# Altium footprint library WR-MPC4.PcbLib: 79 footprints (part 2 of 5)
Each footprint in its own frame and in the unit in brackets; x right, y up, seen from the top. Pads: shape width x height; smd on the part's side, far side on the other; paste and mask are expansions set on the pad; w line width, h text height; cw(c..) or ccw(c..) is an arc to the next point about the centre after c.
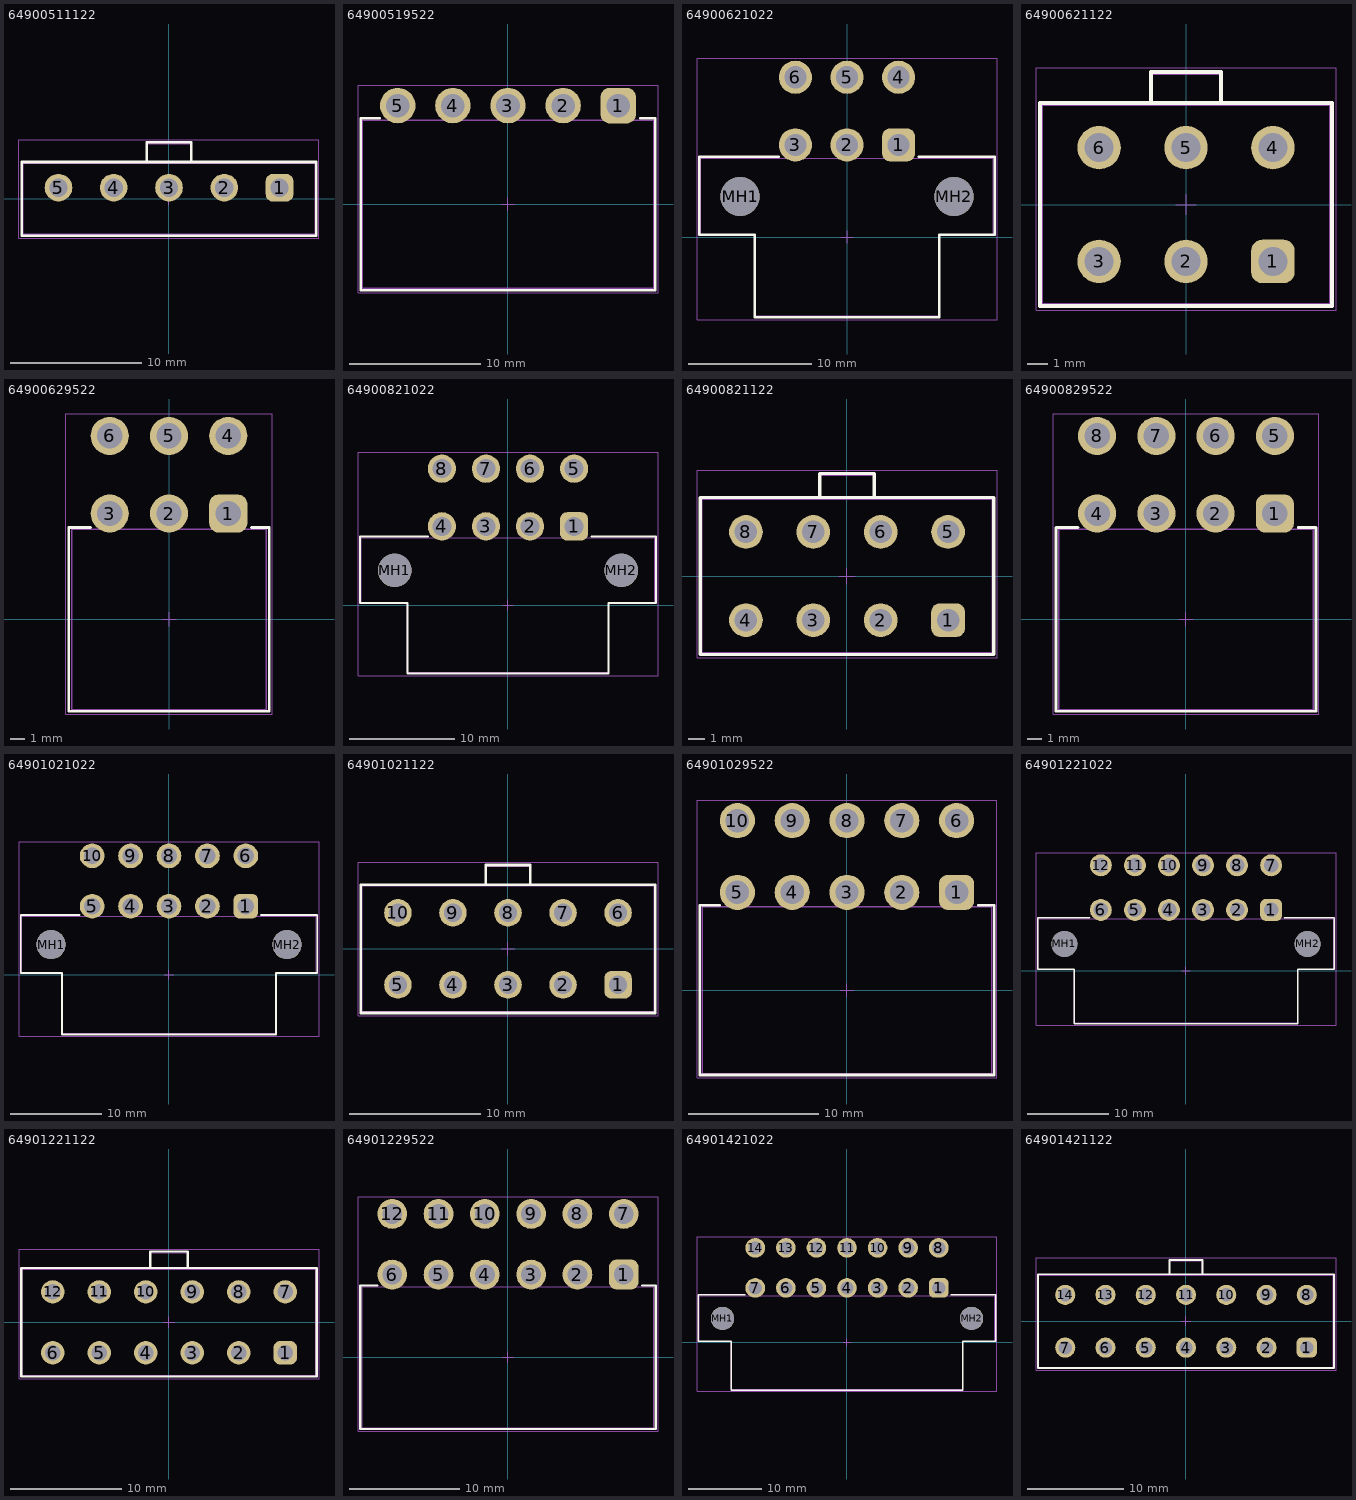
[diagram p1: the footprints below, top view; thin cyan lines are the x and y axes]

## 64900511122 [mm] "4.20mm Male Single Row Vertical Header, 5p"
height 12.8
pads (5):
  rrect50% 2.1x2.1 hole 1.4: 1(8.4,0.85)
  round 2.1 hole 1.4: 2(4.2,0.85) 3(0,0.85) 4(-4.2,0.85) 5(-8.4,0.85)
Top Overlay:
  lines w0.2: -1.7,2.8 -1.7,4.3 1.7,4.3 1.7,2.8 ; -11.2,-2.8 -11.2,2.8 11.2,2.8 11.2,-2.8 -11.2,-2.8
Top Designator:
  text ".Designator" at -7.498,-0.5 h1.5
Top Component Outline:
  lines w0.1: -1.7,2.7 -1.7,4.2 1.7,4.2 1.7,2.7 ; -11.1,-2.7 11.1,-2.7 11.1,2.7 -11.1,2.7 -11.1,-2.7
Top Courtyard:
  lines w0.05: -0.5,0 0.5,0 ; 0,-0.5 0,0.5 ; -11.4,-3 -11.4,4.5 11.4,4.5 11.4,-3 -11.4,-3
3D body "64900511122.stp": height 12.83, standoff -3.47, extent -11.1,-2.7 11.1,4.2

## 64900519522 [mm] "4.20mm Male Single Row Angled Header, 5p"
height 5.8
pads (5):
  rrect50% 2.7x2.7 hole 1.8: 1(8.4,7.5)
  round 2.7 hole 1.8: 2(4.2,7.5) 3(0,7.5) 4(-4.2,7.5) 5(-8.4,7.5)
Top Overlay:
  lines w0.2: -9.775,6.55 -11.225,6.55 -11.225,-6.55 11.225,-6.55 11.225,6.55 10.075,6.55
Top Designator:
  text ".Designator" at -7.498,-0.5 h1.5
Top Component Outline:
  lines w0.1: -11.1,-6.4 -11.1,6.4 11.1,6.4 11.1,-6.4 -11.1,-6.4
Top Courtyard:
  lines w0.05: -0.5,0 0.5,0 ; 0,-0.5 0,0.5 ; -11.425,-6.75 11.425,-6.75 11.425,9.05 -11.425,9.05 -11.425,-6.75
3D body "64900519522.stp": height 7.23, standoff -3.47, extent -11.1,-6.4 11.1,8.07

## 64900621022 [mm] "4.20mm Male Dual Row Angled Header with Mounting Flanges for Screw-in Retention, 6p"
height 10
pads (8):
  rrect50% 2.7x2.7 hole 1.8: 1(4.2,7.5)
  round 2.7 hole 1.8: 2(0,7.5) 3(-4.2,7.5) 4(4.2,13) 5(0,13) 6(-4.2,13)
  round 3.2 hole 3.2 unplated: MH1(-8.7,3.3) MH2(8.7,3.3)
Top Overlay:
  lines w0.2: -5.55,6.525 -12,6.525 -12,0.2 -7.5,0.2 -7.5,-6.525 7.5,-6.525 7.5,0.2 12,0.2 12,6.525 5.85,6.525
Top Designator:
  text ".Designator" at -7.498,-0.5 h1.5
Top Component Outline:
  lines w0.1: -11.9,0.2 -7.5,0.2 -7.5,-6.4 7.5,-6.4 7.5,0.2 11.9,0.2 11.9,6.4 -11.9,6.4 -11.9,0.2
Top Courtyard:
  lines w0.05: -0.5,0 0.5,0 ; 0,-0.5 0,0.5 ; -12.2,-6.725 12.2,-6.725 12.2,14.55 -12.2,14.55 -12.2,-6.725
3D body "64900621022.stp": height 11.43, standoff -3.47, extent -11.9,-6.4 11.9,13.57

## 64900621122 [mm] "4.20mm Male Dual Row Vertical Header, 6p"
height 12.8
pads (6):
  rrect50% 2.1x2.1 hole 1.4: 1(4.2,-2.75)
  round 2.1 hole 1.4: 2(0,-2.75) 3(-4.2,-2.75) 4(4.2,2.75) 5(0,2.75) 6(-4.2,2.75)
Top Overlay:
  lines w0.2: -1.7,4.9 -1.7,6.4 1.7,6.4 1.7,4.9 ; -7.05,-4.9 -7.05,4.9 7.05,4.9 7.05,-4.9 -7.05,-4.9
Top Designator:
  text ".Designator" at -7.498,-0.5 h1.5
Top Component Outline:
  lines w0.1: -1.7,4.8 -1.7,6.3 1.7,6.3 1.7,4.8 ; -6.95,-4.8 6.95,-4.8 6.95,4.8 -6.95,4.8 -6.95,-4.8
Top Courtyard:
  lines w0.05: -0.5,0 0.5,0 ; 0,-0.5 0,0.5 ; -7.25,-5.1 7.25,-5.1 7.25,6.6 -7.25,6.6 -7.25,-5.1
3D body "64900621122.stp": height 12.85, standoff -3.45, extent -6.95,-4.8 7.246,6.3

## 64900629522 [mm] "4.20mm Male Dual Row Angled Header, 6p"
height 10
pads (6):
  rrect50% 2.7x2.7 hole 1.8: 1(4.2,7.5)
  round 2.7 hole 1.8: 2(0,7.5) 3(-4.2,7.5) 4(4.2,13) 5(0,13) 6(-4.2,13)
Top Overlay:
  lines w0.2: -5.55,6.5 -7.1,6.5 -7.1,-6.5 7.1,-6.5 7.1,6.5 5.85,6.5
Top Designator:
  text ".Designator" at -7.498,-0.5 h1.5
Top Component Outline:
  lines w0.1: -6.9,-6.4 6.9,-6.4 6.9,6.4 -6.9,6.4 -6.9,-6.4
Top Courtyard:
  lines w0.05: -0.5,0 0.5,0 ; 0,-0.5 0,0.5 ; -7.3,-6.7 -7.3,14.55 7.3,14.55 7.3,-6.7 -7.3,-6.7
3D body "64900629522.stp": height 11.43, standoff -3.47, extent -6.9,-6.4 7.22,13.57

## 64900821022 [mm] "4.20mm Male Dual Row Angled Header with Mounting Flanges for Screw-in Retention, 8p"
height 10
pads (10):
  rrect50% 2.7x2.7 hole 1.8: 1(6.3,7.5)
  round 2.7 hole 1.8: 2(2.1,7.5) 3(-2.1,7.5) 4(-6.3,7.5) 5(6.3,13) 6(2.1,13) 7(-2.1,13) 8(-6.3,13)
  round 3.2 hole 3.2 unplated: MH1(-10.8,3.3) MH2(10.8,3.3)
Top Overlay:
  lines w0.2: -7.65,6.525 -14.1,6.525 -14.1,0.2 -9.6,0.2 -9.6,-6.525 9.6,-6.525 9.6,0.2 14.1,0.2 14.1,6.525 7.95,6.525
Top Designator:
  text ".Designator" at -7.498,-0.5 h1.5
Top Component Outline:
  lines w0.1: -14,0.2 -9.6,0.2 -9.6,-6.4 9.6,-6.4 9.6,0.2 14,0.2 14,6.4 -14,6.4 -14,0.2
Top Courtyard:
  lines w0.05: -0.5,0 0.5,0 ; 0,-0.5 0,0.5 ; -14.3,-6.725 14.3,-6.725 14.3,14.55 -14.3,14.55 -14.3,-6.725
3D body "64900821022.stp": height 11.43, standoff -3.47, extent -14,-6.4 14,13.57

## 64900821122 [mm] "4.20mm Male Dual Row Vertical Header, 8p"
height 12.8
pads (8):
  rrect50% 2.1x2.1 hole 1.4: 1(6.3,-2.75)
  round 2.1 hole 1.4: 2(2.1,-2.75) 3(-2.1,-2.75) 4(-6.3,-2.75) 5(6.3,2.75) 6(2.1,2.75) 7(-2.1,2.75) 8(-6.3,2.75)
Top Overlay:
  lines w0.2: -1.7,4.9 -1.7,6.4 1.7,6.4 1.7,4.9 ; -9.15,-4.9 9.15,-4.9 9.15,4.9 -9.15,4.9 -9.15,-4.9
Top Designator:
  text ".Designator" at -7.498,-0.5 h1.5
Top Component Outline:
  lines w0.1: -1.7,4.8 -1.7,6.3 1.7,6.3 1.7,4.8 ; -9.05,-4.8 -9.05,4.8 9.05,4.8 9.05,-4.8 -9.05,-4.8
Top Courtyard:
  lines w0.05: -0.5,0 0.5,0 ; 0,-0.5 0,0.5 ; -9.35,-5.1 -9.35,6.6 9.35,6.6 9.35,-5.1 -9.35,-5.1
3D body "64900821122.stp": height 12.85, standoff -3.45, extent -9.05,-4.8 9.346,6.3

## 64900829522 [mm] "4.20mm Male Dual Row Angled Header, 8p"
height 10
pads (8):
  rrect50% 2.7x2.7 hole 1.8: 1(6.3,7.5)
  round 2.7 hole 1.8: 2(2.1,7.5) 3(-2.1,7.5) 4(-6.3,7.5) 5(6.3,13) 6(2.1,13) 7(-2.1,13) 8(-6.3,13)
Top Overlay:
  lines w0.2: -7.65,6.5 -9.2,6.5 -9.2,-6.5 9.2,-6.5 9.2,6.5 7.95,6.5
Top Designator:
  text ".Designator" at -7.498,-0.5 h1.5
Top Component Outline:
  lines w0.1: -9,-6.4 -9,6.4 9,6.4 9,-6.4 -9,-6.4
Top Courtyard:
  lines w0.05: -0.5,0 0.5,0 ; 0,-0.5 0,0.5 ; -9.4,-6.7 9.4,-6.7 9.4,14.55 -9.4,14.55 -9.4,-6.7
3D body "64900829522.stp": height 11.43, standoff -3.47, extent -9,-6.4 9.32,13.57

## 64901021022 [mm] "4.20mm Male Dual Row Angled Header with Mounting Flanges for Screw-in Retention, 10p"
height 10
pads (12):
  rrect50% 2.7x2.7 hole 1.8: 1(8.4,7.5)
  round 2.7 hole 1.8: 2(4.2,7.5) 3(0,7.5) 4(-4.2,7.5) 5(-8.4,7.5) 6(8.4,13) 7(4.2,13) 8(0,13) 9(-4.2,13) 10(-8.4,13)
  round 3.2 hole 3.2 unplated: MH1(-12.9,3.3) MH2(12.9,3.3)
Top Overlay:
  lines w0.2: -9.75,6.525 -16.2,6.525 -16.2,0.2 -11.7,0.2 -11.7,-6.525 11.7,-6.525 11.7,0.2 16.2,0.2 16.2,6.525 10.05,6.525
Top Designator:
  text ".Designator" at -7.498,-0.5 h1.5
Top Component Outline:
  lines w0.1: -16.1,0.2 -11.7,0.2 -11.7,-6.4 11.7,-6.4 11.7,0.2 16.1,0.2 16.1,6.4 -16.1,6.4 -16.1,0.2
Top Courtyard:
  lines w0.05: -0.5,0 0.5,0 ; 0,-0.5 0,0.5 ; -16.4,-6.725 16.4,-6.725 16.4,14.55 -16.4,14.55 -16.4,-6.725
3D body "64901021022.stp": height 11.43, standoff -3.47, extent -16.1,-6.4 16.1,13.57

## 64901021122 [mm] "4.20mm Male Dual Row Vertical Header, 10p"
height 12.8
pads (10):
  rrect50% 2.1x2.1 hole 1.4: 1(8.4,-2.75)
  round 2.1 hole 1.4: 2(4.2,-2.75) 3(0,-2.75) 4(-4.2,-2.75) 5(-8.4,-2.75) 6(8.4,2.75) 7(4.2,2.75) 8(0,2.75) 9(-4.2,2.75) 10(-8.4,2.75)
Top Overlay:
  lines w0.2: -1.7,4.9 -1.7,6.4 1.7,6.4 1.7,4.9 ; -11.25,-4.9 11.25,-4.9 11.25,4.9 -11.25,4.9 -11.25,-4.9
Top Designator:
  text ".Designator" at -7.498,-0.5 h1.5
Top Component Outline:
  lines w0.1: -1.7,4.8 -1.7,6.3 1.7,6.3 1.7,4.8 ; -11.15,-4.8 -11.15,4.8 11.15,4.8 11.15,-4.8 -11.15,-4.8
Top Courtyard:
  lines w0.05: -0.5,0 0.5,0 ; 0,-0.5 0,0.5 ; -11.45,-5.1 -11.45,6.6 11.45,6.6 11.45,-5.1 -11.45,-5.1
3D body "64901021122.stp": height 12.85, standoff -3.45, extent -11.15,-4.8 11.446,6.3

## 64901029522 [mm] "4.20mm Male Dual Row Angled Header, 10p"
height 10
pads (10):
  rrect50% 2.7x2.7 hole 1.8: 1(8.4,7.5)
  round 2.7 hole 1.8: 2(4.2,7.5) 3(0,7.5) 4(-4.2,7.5) 5(-8.4,7.5) 6(8.4,13) 7(4.2,13) 8(0,13) 9(-4.2,13) 10(-8.4,13)
Top Overlay:
  lines w0.2: -9.75,6.5 -11.3,6.5 -11.3,-6.5 11.3,-6.5 11.3,6.5 10.05,6.5
Top Designator:
  text ".Designator" at -7.498,-0.5 h1.5
Top Component Outline:
  lines w0.1: -11.1,-6.4 -11.1,6.4 11.1,6.4 11.1,-6.4 -11.1,-6.4
Top Courtyard:
  lines w0.05: -0.5,0 0.5,0 ; 0,-0.5 0,0.5 ; -11.5,-6.7 11.5,-6.7 11.5,14.55 -11.5,14.55 -11.5,-6.7
3D body "64901029522.stp": height 11.43, standoff -3.47, extent -11.1,-6.4 11.42,13.57

## 64901221022 [mm] "4.20mm Male Dual Row Angled Header with Mounting Flanges for Screw-in Retention, 12p"
height 10
pads (14):
  rrect50% 2.7x2.7 hole 1.8: 1(10.5,7.5)
  round 2.7 hole 1.8: 2(6.3,7.5) 3(2.1,7.5) 4(-2.1,7.5) 5(-6.3,7.5) 6(-10.5,7.5) 7(10.5,13) 8(6.3,13) 9(2.1,13) 10(-2.1,13) 11(-6.3,13) 12(-10.5,13)
  round 3.2 hole 3.2 unplated: MH1(-15,3.3) MH2(15,3.3)
Top Overlay:
  lines w0.2: -11.85,6.525 -18.3,6.525 -18.3,0.2 -13.8,0.2 -13.8,-6.525 13.8,-6.525 13.8,0.2 18.3,0.2 18.3,6.525 12.15,6.525
Top Designator:
  text ".Designator" at -7.498,-0.5 h1.5
Top Component Outline:
  lines w0.1: -18.2,0.2 -13.8,0.2 -13.8,-6.4 13.8,-6.4 13.8,0.2 18.2,0.2 18.2,6.4 -18.2,6.4 -18.2,0.2
Top Courtyard:
  lines w0.05: -0.5,0 0.5,0 ; 0,-0.5 0,0.5 ; -18.5,-6.725 18.5,-6.725 18.5,14.55 -18.5,14.55 -18.5,-6.725
3D body "64901221022.stp": height 11.43, standoff -3.47, extent -18.2,-6.4 18.2,13.57

## 64901221122 [mm] "4.20mm Male Dual Row Vertical Header, 12p"
height 12.8
pads (12):
  rrect50% 2.1x2.1 hole 1.4: 1(10.5,-2.75)
  round 2.1 hole 1.4: 2(6.3,-2.75) 3(2.1,-2.75) 4(-2.1,-2.75) 5(-6.3,-2.75) 6(-10.5,-2.75) 7(10.5,2.75) 8(6.3,2.75) 9(2.1,2.75) 10(-2.1,2.75) 11(-6.3,2.75) 12(-10.5,2.75)
Top Overlay:
  lines w0.2: -1.7,4.9 -1.7,6.4 1.7,6.4 1.7,4.9 ; -13.35,-4.9 -13.35,4.9 13.35,4.9 13.35,-4.9 -13.35,-4.9
Top Designator:
  text ".Designator" at -7.498,-0.5 h1.5
Top Component Outline:
  lines w0.1: -1.7,4.8 -1.7,6.3 1.7,6.3 1.7,4.8 ; -13.25,-4.8 13.25,-4.8 13.25,4.8 -13.25,4.8 -13.25,-4.8
Top Courtyard:
  lines w0.05: -0.5,0 0.5,0 ; 0,-0.5 0,0.5 ; -13.55,-5.1 13.55,-5.1 13.55,6.6 -13.55,6.6 -13.55,-5.1
3D body "64901221122.stp": height 12.85, standoff -3.45, extent -13.25,-4.8 13.546,6.3

## 64901229522 [mm] "4.20mm Male Dual Row Angled Header, 12p"
height 10
pads (12):
  rrect50% 2.7x2.7 hole 1.8: 1(10.5,7.5)
  round 2.7 hole 1.8: 2(6.3,7.5) 3(2.1,7.5) 4(-2.1,7.5) 5(-6.3,7.5) 6(-10.5,7.5) 7(10.5,13) 8(6.3,13) 9(2.1,13) 10(-2.1,13) 11(-6.3,13) 12(-10.5,13)
Top Overlay:
  lines w0.2: -11.85,6.5 -13.4,6.5 -13.4,-6.5 13.4,-6.5 13.4,6.5 12.15,6.5
Top Designator:
  text ".Designator" at -7.498,-0.5 h1.5
Top Component Outline:
  lines w0.1: -13.2,-6.4 13.2,-6.4 13.2,6.4 -13.2,6.4 -13.2,-6.4
Top Courtyard:
  lines w0.05: -0.5,0 0.5,0 ; 0,-0.5 0,0.5 ; -13.6,-6.7 -13.6,14.55 13.6,14.55 13.6,-6.7 -13.6,-6.7
3D body "64901229522.stp": height 11.43, standoff -3.47, extent -13.2,-6.4 13.52,13.57

## 64901421022 [mm] "4.20mm Male Dual Row Angled Header with Mounting Flanges for Screw-in Retention, 14p"
height 10
pads (16):
  rrect50% 2.7x2.7 hole 1.8: 1(12.6,7.5)
  round 2.7 hole 1.8: 2(8.4,7.5) 3(4.2,7.5) 4(0,7.5) 5(-4.2,7.5) 6(-8.4,7.5) 7(-12.6,7.5) 8(12.6,13) 9(8.4,13) 10(4.2,13) 11(0,13) 12(-4.2,13) 13(-8.4,13) 14(-12.6,13)
  round 3.2 hole 3.2 unplated: MH1(-17.1,3.3) MH2(17.1,3.3)
Top Overlay:
  lines w0.2: -13.95,6.525 -20.4,6.525 -20.4,0.2 -15.9,0.2 -15.9,-6.525 15.9,-6.525 15.9,0.2 20.4,0.2 20.4,6.525 14.25,6.525
Top Designator:
  text ".Designator" at -7.498,-0.5 h1.5
Top Component Outline:
  lines w0.1: -20.3,0.2 -20.3,6.4 20.3,6.4 20.3,0.2 15.9,0.2 15.9,-6.4 -15.9,-6.4 -15.9,0.2 -20.3,0.2
Top Courtyard:
  lines w0.05: -0.5,0 0.5,0 ; 0,-0.5 0,0.5 ; -20.6,-6.725 -20.6,14.55 20.6,14.55 20.6,-6.725 -20.6,-6.725
3D body "64901421022.stp": height 11.43, standoff -3.47, extent -20.3,-6.4 20.3,13.57

## 64901421122 [mm] "4.20mm Male Dual Row Vertical Header, 14p"
height 12.8
pads (14):
  rrect50% 2.1x2.1 hole 1.4: 1(12.6,-2.75)
  round 2.1 hole 1.4: 2(8.4,-2.75) 3(4.2,-2.75) 4(0,-2.75) 5(-4.2,-2.75) 6(-8.4,-2.75) 7(-12.6,-2.75) 8(12.6,2.75) 9(8.4,2.75) 10(4.2,2.75) 11(0,2.75) 12(-4.2,2.75) 13(-8.4,2.75) 14(-12.6,2.75)
Top Overlay:
  lines w0.2: -1.7,4.9 -1.7,6.4 1.7,6.4 1.7,4.9 ; -15.45,-4.9 15.45,-4.9 15.45,4.9 -15.45,4.9 -15.45,-4.9
Top Designator:
  text ".Designator" at -7.498,-0.5 h1.5
Top Component Outline:
  lines w0.1: -1.7,4.8 -1.7,6.3 1.7,6.3 1.7,4.8 ; -15.35,-4.8 -15.35,4.8 15.35,4.8 15.35,-4.8 -15.35,-4.8
Top Courtyard:
  lines w0.05: -0.5,0 0.5,0 ; 0,-0.5 0,0.5 ; -15.65,-5.1 -15.65,6.6 15.65,6.6 15.65,-5.1 -15.65,-5.1
3D body "64901421122.stp": height 12.85, standoff -3.45, extent -15.35,-4.8 15.646,6.3